# Altium schematic symbol library General.SchLib: 40 symbols
Pins are listed as number, name and electrical type; pins without a type are passive.

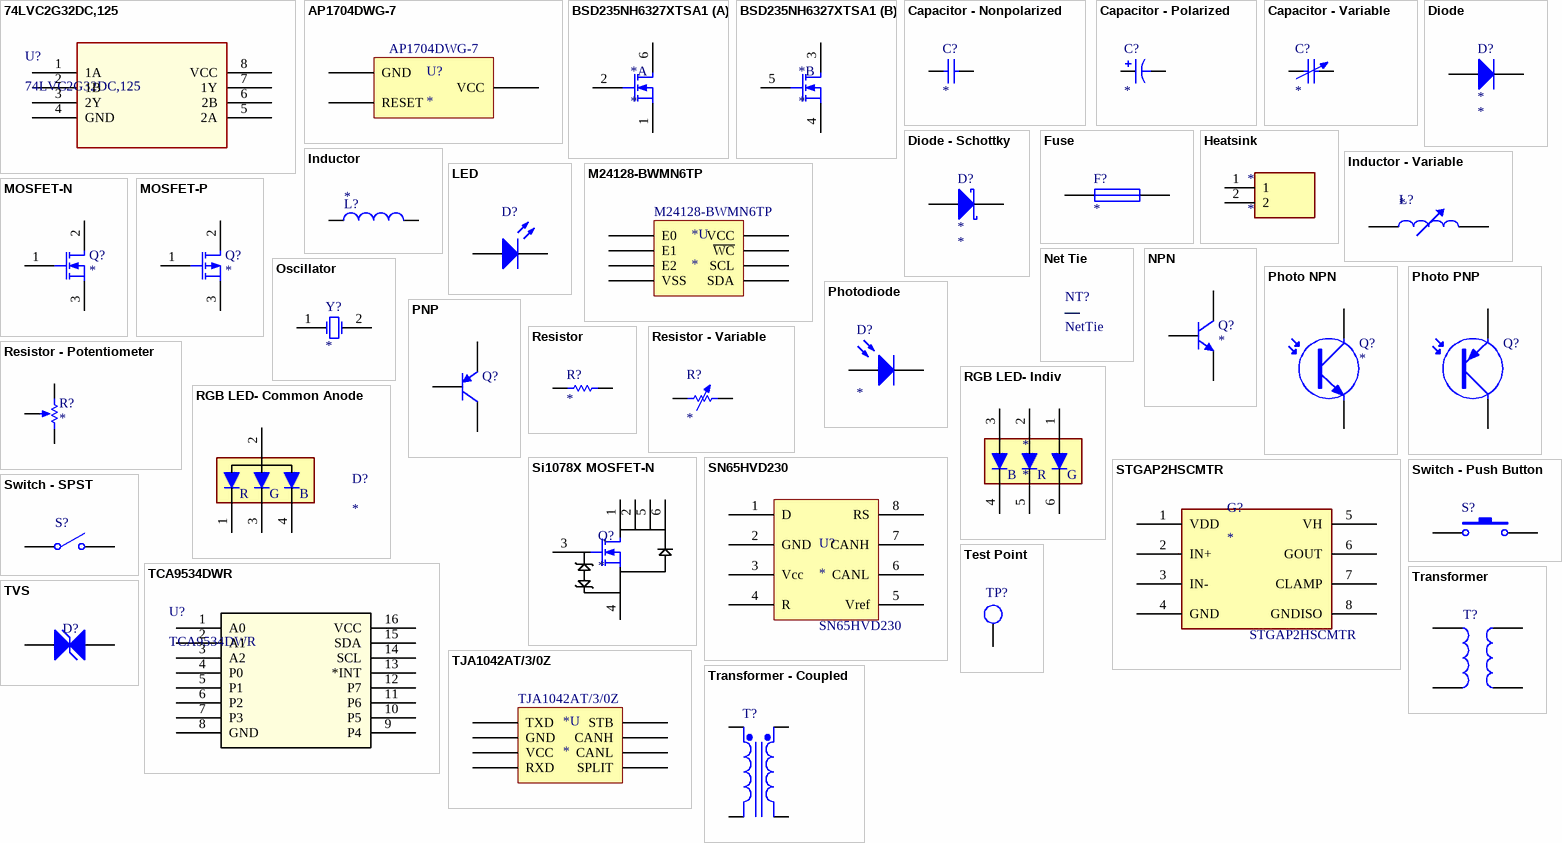
[diagram p0: symbols 74LVC2G32DC,125 to TVS]

## 74LVC2G32DC,125
designator U?
IC GATE OR 2CH 2-INP 8TSSOP; Manufacturer Name: Nexperia; Manufacturer Part Number: 74LVC2G32DC,125; Supplier Name: Digikey; Supplier Part Number: 1727-5991-2-ND
footprint VSSOP8_SOT765-1_NEX
pins: 1 1A, 2 1B, 3 2Y, 4 GND, 5 2A, 6 2B, 7 1Y, 8 VCC (power)

## AP1704DWG-7
designator U?  Manufacturer Part Number: AP1704DWG-7
Power Supply Support Circuit, Fixed, 1 Channel, PDSO3; Manufacturer: Diodes Inc.; Package Body Material: Plastic; Adjustable Threshold: No; Number of Channels: 1; Supply Voltage-Max (Vsup): 5.5V; Supply Voltage-Min (Vsup): 1V; Time @ Peak Reflow Temperature-Max (s): 40s; Qualification Status: Not Qualified; RoHS: Yes; Category: Voltage Supervisors; Package Code: LSSOP; Number of Pins: 3; Package Shape: Rectangular; Terminal Finish: Tin; Min Operating Temperature: 0°C; Max Operating Temperature: 70°C; JESD-609 Code: e3; Analog IC - Other Type: POWER SUPPLY SUPPORT CIRCUIT; JESD-30 Code: R-PDSO-G3; Moisture Sensitivity Level: 3; Number of Functions: 1; Package Style: SMALL OUTLINE, LOW PROFILE, SHRINK PITCHMeter; Peak Reflow Temperature (Cel): 260°C; Surface Mount: Yes; Terminal Form: Gull Wing; Terminal Position: DUAL; Length: 3mm; Width: 1.6mm; Height - Seated (Max): 1.4mm; Terminal Pitch: 0.95mm; Temperature Grade: COMMERCIAL; REACH SVHC: Yes; RoHS Compliant: Yes; ComponentLink6Description: Datasheet; ComponentLink6URL: https://media.digikey.com/pdf/Data%20Sheets/Diodes%20PDFs/AP1701-1704.pdf; Supplier: Diji-Key; Supplier part number: AP1704DWGDITR-ND
footprint SOT95P285X140-3N
pins: 1 GND, 2 RESET, 3 VCC

## BSD235NH6327XTSA1
designator *
footprint BSD235NH6327XTSA1 (SOT-363)
part A pins: 1 S, 2 G, 6 D
part B pins: 3 D, 4 S, 5 G

## Capacitor - Nonpolarized
designator C?
Nonpolarized Capacitor; Supplier Part Number: *; Supplier: *; Manufacturer: *; Rating: *; Manufacturer Part Number: *; Value: *
simulation model CAP (Capacitor)
signal-integrity model Cap
footprint 0603 - Capacitor (0603 Chip Capacitor - IPC Medium Density)
footprint 0805 - Capacitor (0805 Chip Capacitor - IPC Medium Density)
footprint 1206 - Capacitor (1206 Chip Capacitor - IPC Medium Density)
footprint 1210 - Capacitor (1210 Chip Capacitor - IPC Medium Density)
footprint 1812 - Capacitor (1812 Chip Capacitor - IPC Medium Density)
footprint 2220 - Capacitor (2220 Chip Capacitor - IPC Medium Density)
pins: 1, 2

## Capacitor - Polarized
designator C?
Polarized Capacitor; Supplier: *; Supplier Part Number: *; Rating: *; Manufacturer: *; Manufacturer Part Number: *; Value: *
simulation model CAP (Capacitor)
signal-integrity model Cap Pol
footprint OCVZ0606 - CAPACITOR (Aluminum Electrolytic Capacitor, Body 6.60x6.60x6.00mm, IPC Low Density)
footprint CAPAE205180X165M (Aluminum Electrolytic Capacitor, Body 18.65x18.00x16.50mm, IPC Low Density)
pins: 1, 2
1 alternate drawing of the same symbol

## Capacitor - Variable
designator C?
Variable Capacitor; Supplier Part Number: *; Supplier: *; Manufacturer: *; Manufacturer Part Number: *; Rating: *; Value: *
signal-integrity model Cap Var
pins: 1, 2

## Diode
designator D?
Diode; Rating: *; Supplier Part Number: *; Manufacturer: *; Supplier: *; Value: *; Manufacturer Part Number: *
simulation model DIODE (Diode)
signal-integrity model Diode
footprint SMA - DIODE (Molded Diode, 2-Leads, Body 4.38x2.63mm, IPC Medium Density)
footprint SOD123 - DIODE (SOD, 2-Leads, Body 1.55x3.70mm, IPC Medium Density)
footprint SMB - DIODE
footprint SOD323 - DIODE
footprint 0805 - DIODE (Diode)
pins: 1 A, 2 K

## Diode - Schottky
designator D?
Schottky Rectifier; Rating: *; Supplier Part Number: *; Supplier: *; Manufacturer: *; ComponentLink1Description: Manufacturer Link; ComponentLink1URL: http://www.irf.com/; ComponentLink2Description: Datasheet; ComponentLink2URL: http://www.irf.com/product-info/datasheets/data/10tq.pdf; Value: *; Manufacturer Part Number: *
footprint SMA - DIODE (Molded Diode, 2-Leads, Body 4.38x2.63mm, IPC Medium Density)
footprint SOD123 - DIODE (SOD, 2-Leads, Body 1.55x3.70mm, IPC Medium Density)
footprint SMB - DIODE
footprint SOD323 - DIODE
footprint SOT 23-3
pins: 1 A, 2 K

## Fuse
designator F?
Fuse; Rating: *; Supplier Part Number: *; Supplier: *; Manufacturer: *; Manufacturer Part Number: *; Value: *
simulation model FUSE (Spice Subcircuit)
footprint 3557-2 (Fuse Holder)
footprint 0402 - FUSE
pins: 1, 2

## Heatsink
designator *
Vertical Heatsink for TO-220 Package
footprint 10C/W Vertical Heatsink with Pins for TO-220
pins: 1, 2

## Inductor
designator L?
Inductor; Rating: *; Manufacturer Part Number: *; Supplier Part Number: *; Supplier: *; Manufacturer: *; Value: *
simulation model INDUCTOR (Inductor)
signal-integrity model Inductor
footprint MSS1210 - INDUCTOR (Precision Wire Wound Inductor, 2-Leads, Body 12.00x12.00mm, IPC Medium Density)
footprint PA4340 - Inductor
footprint MSS1278- INDUCTOR (Fixed Inductors 33uH Shld 20% 3.1A 68.8mOhms AECQ2)
pins: 1, 2

## Inductor - Variable
designator L?
Variable Inductor; Rating: *; Manufacturer: *; Supplier Part Number: *; Manufacturer Part Number: *; Supplier: *; Value: *
simulation model INDUCTOR (Inductor)
signal-integrity model Inductor Adj
pins: 1, 2

## LED
designator D?  (value not drawn)
Light Emitting Diode; Value: *; Manufacturer Part Number: *; Manufacturer: *; Supplier Part Number: *; Rating: *; Supplier: *
simulation model LED0 (Diode)
footprint 0805 - DIODE (Diode)
pins: 1 A, 2 K

## M24128-BWMN6TP
designator *U  Manufacturer_Part_Number: M24128-BWMN6TP
EEPROM Memory IC 128Kb (16K x 8) I²C 1 MHz 450 ns 8-SOIC; Manufacturer_Name: STMicroelectronics; Datasheet Link: http://www.st.com/st-web-ui/static/active/en/resource/technical/document/datasheet/CD00259167.pdf; Height: 1.75mm; Supplier: Digi-Key; Supplier Part Number: 497-8621-2-ND; ComponentLink1Description: Datasheet; ComponentLink1URL: https://www.st.com/content/ccc/resource/technical/document/datasheet/59/05/c9/5b/7b/41/48/b6/CD00259167.pdf/files/CD00259167.pdf/jcr:content/translations/en.CD00259167.pdf
footprint SOIC127P600X175-8N
pins: 1 E0, 2 E1, 3 E2, 4 VSS, 5 SDA, 6 SCL, 7 ~{WC}, 8 VCC

## MOSFET-N
designator Q?
N-Channel MOSFET; Supplier: *; Manufacturer Part Number: *; Supplier Part Number: *; Rating: *; Manufacturer: *; Value: *
simulation model NMOS (MOSFET-N)
footprint DDPAK254 (D2-PAK, 3-Pads, Body 7.93x8.70mm (max), IPC Medium Density)
footprint SC70/SOT323
footprint SOT 23-3
footprint TO2520AB
footprint PowerPAK® SO-8
footprint STP110N10F7 (N Channel MOSFET)
pins: 1 G, 2 D, 3 S

## MOSFET-P
designator Q?
P-Channel MOSFET; Supplier: *; Manufacturer Part Number: *; Rating: *; Supplier Part Number: *; Manufacturer: *; Value: *
simulation model PMOS (MOSFET-P)
footprint DDPAK254 (D2-PAK, 3-Pads, Body 7.93x8.70mm (max), IPC Medium Density)
footprint SC70/SOT323
footprint SOT 23-3
footprint TO2520AB
pins: 1 G, 2 D, 3 S

## Net Tie
designator NT?, comment NetTie  (net tie, no BOM)
footprint Net Tie (General Net TIe)
pins: 1, 2

## NPN
designator Q?
NPN Bipolar Transistor; Rating: *; Manufacturer: *; Manufacturer Part Number: *; Supplier: *; Supplier Part Number: *; Value: *
simulation model NPN
signal-integrity model NPN
footprint BJT NPN 180V 0.5A TO252 (DXT696BK)
footprint BJT NPN 800 V 4 A - 90 W Through Hole TO-220
pins: 1 C, 2 B, 3 E

## Oscillator
designator Y?
Crystal Oscillator; Manufacturer Part Number: *; Manufacturer: *; Supplier Part Number: *; Supplier: *; Rating: *; Value: *
simulation model XTAL (Spice Subcircuit)
footprint 2-SMD NO LEAD CRSYSTAL
pins: 1 OSC1, 2 OSC2

## Photo NPN
designator Q?
NPN Phototransistor; Rating: *; Manufacturer: *; Supplier Part Number: *; Supplier: *; Manufacturer Part Number: *; Value: *
pins: 1 C, 3 E

## Photo PNP
designator Q?  (value not drawn)
PNP Phototransistor; Rating: *; Value: *; Manufacturer: *; Supplier Part Number: *; Supplier: *; Manufacturer Part Number: *
pins: 1 C, 3 E

## Photodiode
designator D?
Photosensitive Diode; Supplier Part Number: *; Rating: *; Manufacturer: *; Supplier: *; Manufacturer Part Number: *; Value: *
pins: 1 A, 2 K

## PNP
designator Q?  (value not drawn)
PNP Bipolar Transistor; Rating: *; Manufacturer Part Number: *; Supplier: *; Supplier Part Number: *; Value: *; Manufacturer: *
footprint SOT-23B_M (Footprint not found)
simulation model PNP
signal-integrity model PNP
footprint SOT 23-3
pins: 1 C, 2 B, 3 E

## Resistor
designator R?
Resistor; Rating: *; Manufacturer Part Number: *; Manufacturer: *; Supplier Part Number: *; Supplier: *; Value: *
simulation model RESISTOR (Resistor)
signal-integrity model Res
footprint 0603 - Resistor (0201 Chip Resistor - IPC Medium Density)
footprint 0201 - Resistor (0201 Chip Resistor - IPC Medium Density)
footprint 0402 - Resistor (0402 Chip Resistor - IPC Medium Density)
footprint 0805 - Resistor (0805 Chip Resistor - IPC Medium Density)
footprint 1206 - Resistor (1206 Chip Resistor - IPC Medium Density)
footprint 2512 - RESISTOR
footprint 2816 - RESISTOR
footprint 2616 - RESISTOR
footprint 4122 - RESISTOR
pins: 1, 2

## Resistor - Potentiometer
designator R?
Potentiometer; Manufacturer: *; Manufacturer Part Number: *; Supplier Part Number: *; Rating: *; Supplier: *; Value: *
simulation model POT (Potentiometer)
pins: 1 TOP, 2 BOT, 3 TAP
1 alternate drawing of the same symbol

## Resistor - Variable
designator R?
Variable Resistor; Rating: *; Manufacturer: *; Supplier Part Number: *; Manufacturer Part Number: *; Supplier: *; Value: *
simulation model VRES (Variable Resistor)
signal-integrity model Res Adj
footprint 0603 - Resistor (0603 Chip Resistor - IPC Medium Density)
pins: 1, 2

## RGB LED- Common Anode
designator D?
RGB LED- Common Anode; Manufacturer Part Number: *; Manufacturer: *; Supplier Part Number: *; Supplier: *
footprint 4-PLCC RGB LED
pins: 1 11, 2 11, 3 11, 4 11
text: R; G; B

## RGB LED- Indiv
designator *
6-pin RGB LED; Manufacturer Part Number: *; Manufacturer: *; Supplier Part Number: *; Supplier: *
footprint RGB-6 (6 Pin RGB)
pins: 1 11, 2 11, 3 11, 4 11, 5, 6
text: B; R; G

## Si1078X MOSFET-N
designator Q?
N-Channel 30 V (D-S) MOSFET; Manufacturer Name: Vishay Semiconductors; Manufacturer Part Number: SI1078X-T1-GE3; Supplier Name: Mouser; Supplier Part Number: 78-SI1078X-T1-GE3; ComponentLink1Description: Mouser; ComponentLink1URL: https://www.mouser.ca/ProductDetail/Vishay-Semiconductors/SI1078X-T1-GE3?qs=EBLjwc9jJJulNr1%252B%2FwN60A%3D%3D
footprint Si1078X NMOS 30V (MOSFET 30V Vds 12V Vgs SC89-6)
pins: 1 G, 2 D, 3, 4, 5, 6

## SN65HVD230
designator U?
3.3V CAN Transeiver with standby
footprint SN65HVD230 (3.3V CAN Transeiver with standby mode)
pins: 1 D, 2 GND, 3 Vcc, 4 R, 5 Vref, 6 CANL, 7 CANH, 8 RS

## STGAP2HSCMTR
designator G?
footprint STGAP2HSCMTR (Galvanically Isolated 4A Single Gate Driver)
pins: 1 VDD, 2 IN+, 3 IN-, 4 GND, 5 VH, 6 GOUT, 7 CLAMP, 8 GNDISO

## Switch - Push Button
designator S?  (value not drawn)
Push Button Switch; Supplier: *; Manufacturer Part Number: *; Manufacturer: *; Supplier Part Number: *; Rating: *; Value: *
footprint 6x6mm Switch
pins: 1, 2

## Switch - SPST
designator S?  (value not drawn)
Single-Pole, Single-Throw Switch; Supplier: *; Manufacturer: *; Manufacturer Part Number: *; Rating: *; Value: *; Supplier Part Number: *
pins: 1 COMMON, 2 NO

## TCA9534DWR
designator U?
Low Voltage 8-Bit I2C and SMBUS Low-Power I/O Expander with Interrupt / Output and Configuration Registers; Mfr_Name: Texas Instruments; Copyright: Copyright (C) 2022 Ultra Librarian. All rights reserved.; Manufacturer_Part_Number: TCA9534DWR; Digi-Key_Part_Number_1: 296-47827-1-ND; Digi-Key_Part_Number_2: 296-47827-2-ND; Digi-Key_Part_Number_3: 296-47827-6-ND; RefDes: RefDes; Type: DEV
footprint TCA9534DWR
pins: 1 A0, 2 A1, 3 A2, 4 P0, 5 P1, 6 P2, 7 P3, 8 GND (power), 9 P4, 10 P5, 11 P6, 12 P7, 13 *INT, 14 SCL, 15 SDA, 16 VCC (power)

## Test Point
designator TP?  (value not drawn)  (no BOM)
Test Point
footprint Test Point
footprint Test Point - 5002 (5002 - PCB TEST POINT WHITE .040)
pins: 1 0

## TJA1042AT/3/0Z
designator *U  Manufacturer Part Number: TJA1042AT/3/0Z
CAN INTERFACE IC TRANSCEIVER 1/1 8SO; Manufacturer: NXP USA Inc.; Supplier: Digi-Key; ComponentLink1Description: Datasheet; ComponentLink1URL: https://www.mouser.ca/datasheet/2/302/TJA1042-1127932.pdf; Supplier Part Number: 568-TJA1042AT/3/0ZTR-ND
footprint SOIC127P600X175-8N
pins: 1 TXD, 2 GND, 3 VCC, 4 RXD, 5 SPLIT, 6 CANL, 7 CANH, 8 STB

## Transformer
designator T?  (value not drawn)
Transformer; Supplier Part Number: *; Manufacturer Part Number: *; Manufacturer: *; Rating: *; Supplier: *; Value: *
simulation model TRANSFORMER (Transformer)
pins: 1, 2, 3, 4

## Transformer - Coupled
designator T?  (value not drawn)
Transformer (Coupled Inductor Model); Supplier Part Number: *; Rating: *; Value: *; Manufacturer: *; Supplier: *; Manufacturer Part Number: *
simulation model TRANSFORMER (Transformer)
pins: 1 Pri+, 2 Pri-, 3 Sec+, 4 Sec-

## TVS
designator D?  (value not drawn)
TVS Diode; Manufacturer Part Number: *; Manufacturer: *; Supplier: *; Supplier Part Number: *; Value: *
footprint SMA - DIODE (Molded Diode, 2-Leads, Body 4.38x2.63mm, IPC Medium Density)
footprint SOD123 - DIODE (SOD, 2-Leads, Body 1.55x3.70mm, IPC Medium Density)
footprint SMB - DIODE
footprint SOD323 - DIODE
pins: 1 A, 2 K

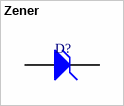
[diagram p1: symbol Zener]

## Zener
designator D?  (value not drawn)
Zener Diode; Manufacturer Part Number: *; Manufacturer: *; Supplier: *; Supplier Part Number: *; Value: *
footprint SMA - DIODE (Molded Diode, 2-Leads, Body 4.38x2.63mm, IPC Medium Density)
footprint SOD123 - DIODE (SOD, 2-Leads, Body 1.55x3.70mm, IPC Medium Density)
footprint SMB - DIODE
footprint SOD323 - DIODE
footprint BZD27C - ZENER DIODES
footprint SOT 23-3
pins: 1 A, 2 K